# Altium integrated library IRFR9120N.IntLib: 1 symbol
Pins are listed as number, name and electrical type; pins without a type are passive.

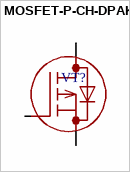
[diagram p0: symbol MOSFET-P-CH-DPAK]

## MOSFET-P-CH-DPAK
designator VT?
footprint DPAK
pins: 1 G, 3 S, 4 D